# Altium schematic symbol library 2019-09-07_21-12-37.SchLib: 2 symbols
Pins are listed as number, name and electrical type; pins without a type are passive.

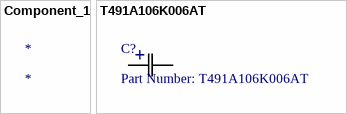
[diagram p0: symbols Component_1 to T491A106K006AT]

## Component_1
designator *

## T491A106K006AT
designator C?, comment Part Number: T491A106K006AT
No Description Available; Vendor: Kemet; Built_By: EMA_UL_Team; Type: DEV; Manufacturer_Part_Number: T491A106K006AT; Copyright: Copyright (C) 2018 Accelerated Designs. All rights reserved; RefDes: RefDes; Value: Value
footprint CAPT3216N
pins: 1, 2
text: +